# Altium integrated library SS14.IntLib: 1 symbol
Pins are listed as number, name and electrical type; pins without a type are passive.

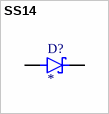
[diagram p0: symbol SS14]

## SS14
designator D?
MP: SS14; Value: *; Availability: Unavailable; Price: None; Package: None
footprint DIOM4325X250N
pins: A, C K